# EAGLE library part MPU9255 (library custom)
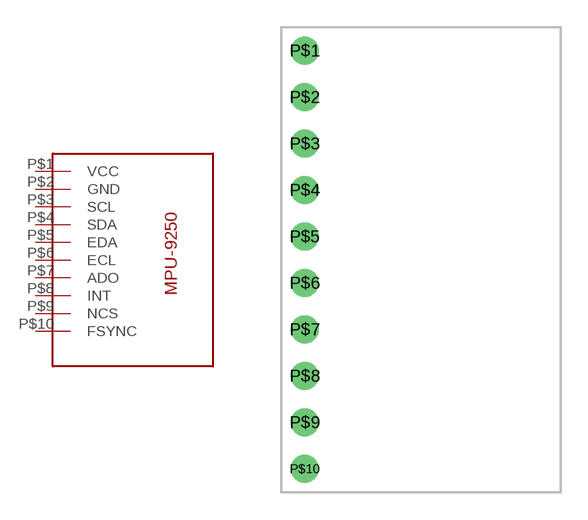
[diagram p1: symbol with the pads of MPU9255; footprint MPU9255]

Designator prefix -

## MPU9255  [MPU9255]
P$1  VCC
P$2  GND
P$3  SCL
P$4  SDA
P$5  EDA
P$6  ECL
P$7  ADO
P$8  INT
P$9  NCS
P$10  FSYNC

## Footprint MPU9255 (pad centres in mm)
drill 1: P$1 0,11.43; P$2 0,8.89; P$3 0,6.35; P$4 0,3.81; P$5 0,1.27; P$6 0,-1.27; P$7 0,-3.81; P$8 0,-6.35; P$9 0,-8.89; P$10 0,-11.43